# EAGLE library part T6963C (library untitled)
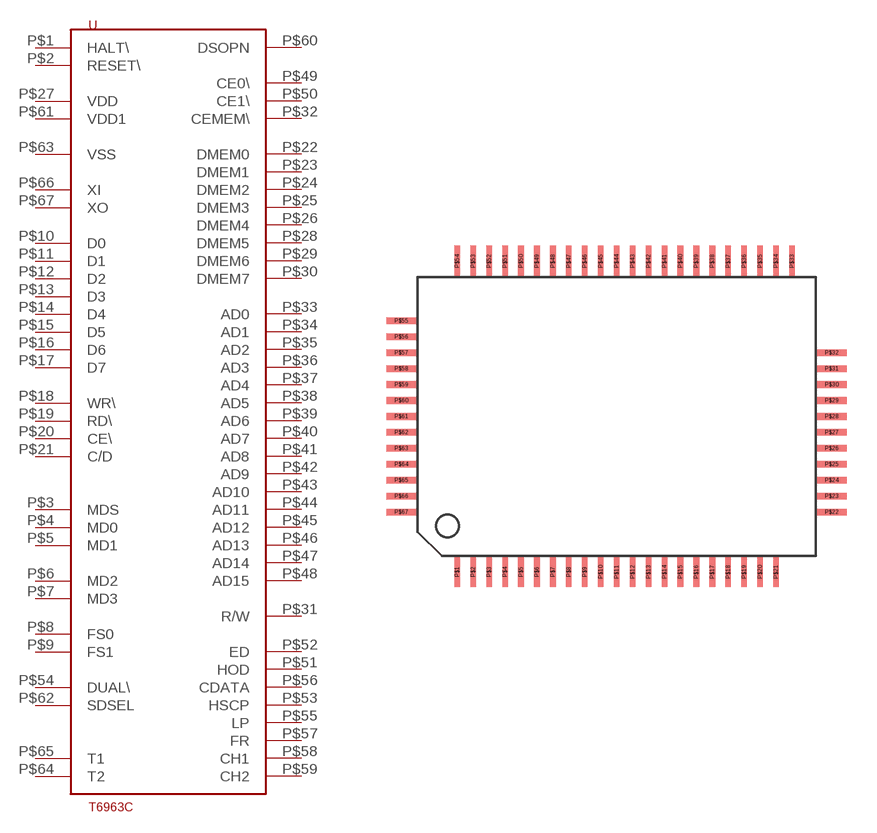
[diagram p0: symbol with the pads of QFP67; footprint QFP67]

Designator prefix -

## T6963C  [QFP67]
P$1  HALT\  in
P$2  RESET\  in
P$3  MDS  in
P$4  MD0  in
P$5  MD1  in
P$6  MD2  in
P$7  MD3  in
P$8  FS0  in
P$9  FS1  in
P$10  D0
P$11  D1
P$12  D2
P$13  D3
P$14  D4
P$15  D5
P$16  D6
P$17  D7
P$18  WR\  in
P$19  RD\  in
P$20  CE\  in
P$21  C/D  in
P$22  DMEM0
P$23  DMEM1
P$24  DMEM2
P$25  DMEM3
P$26  DMEM4
P$27  VDD  pwr
P$28  DMEM5
P$29  DMEM6
P$30  DMEM7
P$31  R/W  out
P$32  CEMEM\  out
P$33  AD0  out
P$34  AD1  out
P$35  AD2  out
P$36  AD3  out
P$37  AD4  out
P$38  AD5  out
P$39  AD6  out
P$40  AD7  out
P$41  AD8  out
P$42  AD9  out
P$43  AD10  out
P$44  AD11  out
P$45  AD12  out
P$46  AD13  out
P$47  AD14  out
P$48  AD15  out
P$49  CE0\  out
P$50  CE1\  out
P$51  HOD  out
P$52  ED  out
P$53  HSCP  out
P$54  DUAL\  in
P$55  LP  out
P$56  CDATA  out
P$57  FR  out
P$58  CH1  out
P$59  CH2  out
P$60  DSOPN  out
P$61  VDD1  pwr
P$62  SDSEL  in
P$63  VSS  pwr
P$64  T2  in
P$65  T1  in
P$66  XI  in
P$67  XO

## Footprint QFP67 (pad centres in mm)
smd 0.3 x 1.5: P$1 -8,-7.8; P$2 -7.2,-7.8; P$3 -6.4,-7.8; P$4 -5.6,-7.8; P$5 -4.8,-7.8; P$6 -4,-7.8; P$7 -3.2,-7.8; P$8 -2.4,-7.8; P$9 -1.6,-7.8; P$10 -0.8,-7.8; P$11 0,-7.8; P$12 0.8,-7.8; P$13 1.6,-7.8; P$14 2.4,-7.8; P$15 3.2,-7.8; P$16 4,-7.8; P$17 4.8,-7.8; P$18 5.6,-7.8; P$19 6.4,-7.8; P$20 7.2,-7.8; P$21 8,-7.8; P$33 8.8,7.8; P$34 8,7.8; P$35 7.2,7.8; P$36 6.4,7.8; P$37 5.6,7.8; P$38 4.8,7.8; P$39 4,7.8; P$40 3.2,7.8; P$41 2.4,7.8; P$42 1.6,7.8; P$43 0.8,7.8; P$44 0,7.8; P$45 -0.8,7.8; P$46 -1.6,7.8; P$47 -2.4,7.8; P$48 -3.2,7.8; P$49 -4,7.8; P$50 -4.8,7.8; P$51 -5.6,7.8; P$52 -6.4,7.8; P$53 -7.2,7.8; P$54 -8,7.8
smd 1.5 x 0.3: P$22 10.8,-4.8; P$23 10.8,-4; P$24 10.8,-3.2; P$25 10.8,-2.4; P$26 10.8,-1.6; P$27 10.8,-0.8; P$28 10.8,0; P$29 10.8,0.8; P$30 10.8,1.6; P$31 10.8,2.4; P$32 10.8,3.2; P$55 -10.8,4.8; P$56 -10.8,4; P$57 -10.8,3.2; P$58 -10.8,2.4; P$59 -10.8,1.6; P$60 -10.8,0.8; P$61 -10.8,0; P$62 -10.8,-0.8; P$63 -10.8,-1.6; P$64 -10.8,-2.4; P$65 -10.8,-3.2; P$66 -10.8,-4; P$67 -10.8,-4.8